# EAGLE library part 5103308-1 (library SamacSys_Parts)
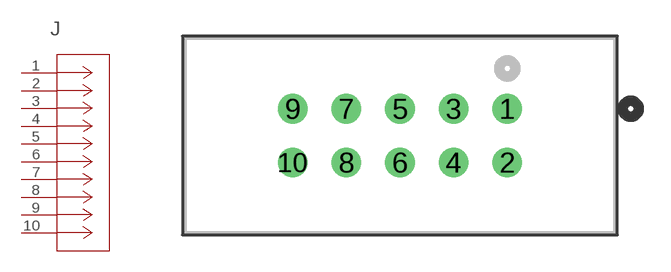
[diagram p6: symbol with the pads of CONN10_5103308-1; footprint CONN10_5103308-1]

Designator prefix J

## 5103308-1 (BUILT_BY: EMA_UL_Team; COPYRIGHT: Copyright (C) 2016 Accelerated Designs. All rights reserved; DESCRIPTION: A/L LOW PRO HDR 10P VERT BLACK; MANUFACTURER_PART_NUMBER: 5103308-1; PITCH_MM_: 2.54; POSITIONS: 10; PRODUCT: Connector; ROWS-CONFIG: 2; SOURCELIBRARY: TE_Connectivity-2018-03-16; TE_PART_NUMBER: 5103308-1; TYPE: Pin Header; VENDOR: TE Connectivity)  [CONN10_5103308-1]
1  1  pas
2  2  pas
3  3  pas
4  4  pas
5  5  pas
6  6  pas
7  7  pas
8  8  pas
9  9  pas
10  10  pas

## Footprint CONN10_5103308-1 (pad centres in mm)
drill 0.889 pad 1.397: 1 10.16,2.54; 2 10.16,0; 3 7.62,2.54; 4 7.62,0; 5 5.08,2.54; 6 5.08,0; 7 2.54,2.54; 8 2.54,0; 9 0,2.54; 10 0,0